# EAGLE library part MCP1640X-X-I_CH (library BaseApp)
Digikey Number :- __MCP1640T-I/CHYCT-ND__
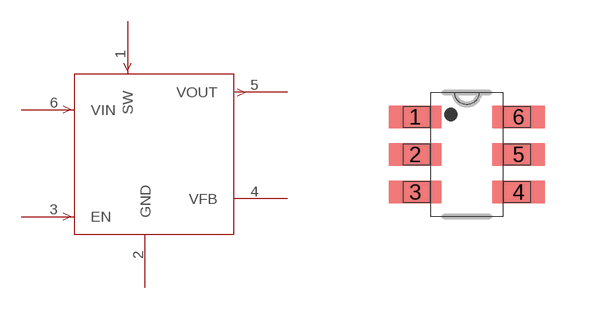
[diagram p125: symbol with the pads of SOT-23-6_MC; footprint SOT-23-6_MC]

Designator prefix -

## MCP1640X-X-I_CH  [SOT-23-6_MC]
1  SW  pas
2  GND  pas
3  EN  pas
4  VFB  pas
5  VOUT  pas
6  VIN  pas

## Footprint SOT-23-6_MC (pad centres in mm)
smd 1.321 x 0.559: 1 -1.295,0.94; 2 -1.295,0; 3 -1.295,-0.94; 4 1.295,-0.94; 5 1.295,0; 6 1.295,0.94